# Altium integrated library MOSFETAO3400A.IntLib: 1 symbol
Pins are listed as number, name and electrical type; pins without a type are passive.

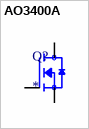
[diagram p0: symbol AO3400A]

## AO3400A
designator Q?
N-Channel 30 V 5.7A (Ta) 1.4W (Ta) Surface Mount SOT-23-3; MF: Alpha & Omega Semiconductor; MP: AO3400A; SnapEDA_Link: https://www.snapeda.com/parts/AO3400A/Alpha/view-part/?ref=snap; Package: SOT-23 Alpha &amp; Omega Semiconductor Inc.; Value: *; Check_prices: https://www.snapeda.com/parts/AO3400A/Alpha/view-part/?ref=eda
footprint SOT95P280X125-3N
pins: 1 G, 2 S, 3 D